# EAGLE library part SCDV554X (library SCDV554x)
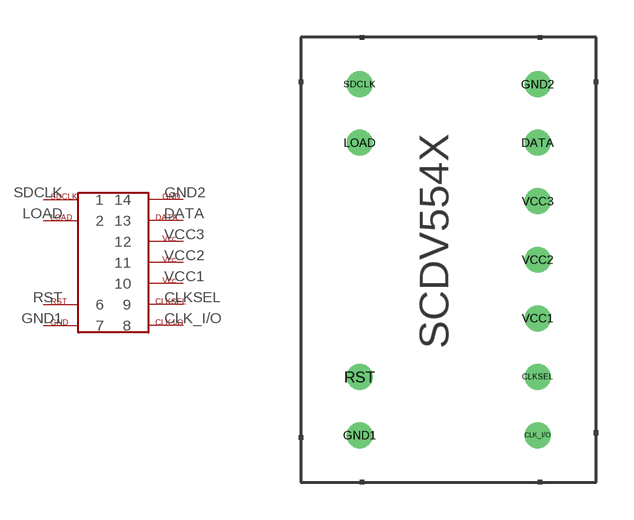
[diagram p0: symbol with the pads of SCDV554X; footprint SCDV554X]

Designator prefix -

## SCDV554X  [SCDV554X]
CLK_I/O  8
CLKSEL  9
DATA  13
GND1  7
GND2  14
LOAD  2
RST  6
SDCLK  1
VCC1  10
VCC2  11
VCC3  12

## Footprint SCDV554X (pad centres in mm)
drill 0.6: CLK_I/O 3.8,-7.5; CLKSEL 3.8,-5; DATA 3.8,5; GND1 -3.8,-7.5; GND2 3.8,7.5; LOAD -3.8,5; RST -3.8,-5; SDCLK -3.8,7.5; VCC1 3.8,-2.5; VCC2 3.8,0; VCC3 3.8,2.5